# EAGLE library part RF6886 (library RitLaunchInitiative)
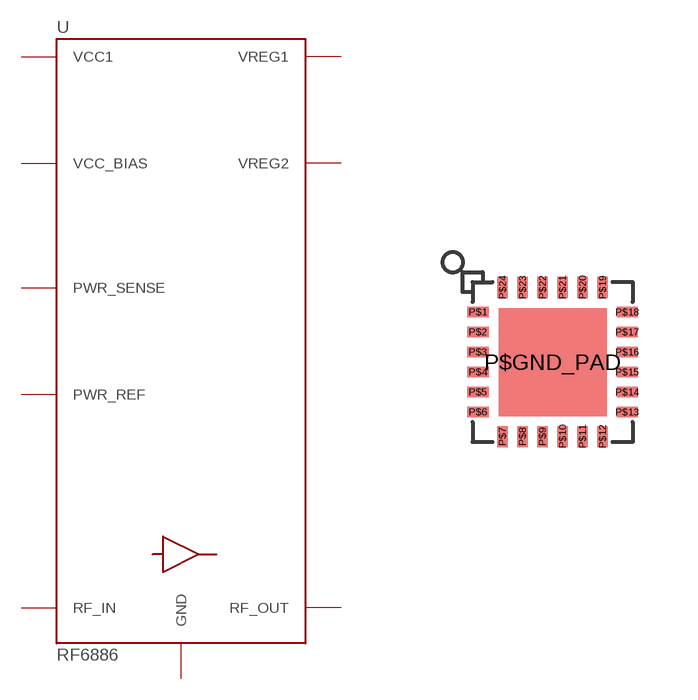
[diagram p5: symbol with the pads of 24-VFQFN; footprint 24-VFQFN]

Designator prefix -

## RF6886  [24-VFQFN]
P$1  VCC1
P$2  VCC1
P$3  VCC1
P$5  VREG2
P$6  RF_IN
P$13  RF_OUT
P$14  RF_OUT
P$15  RF_OUT
P$16  RF_OUT
P$17  RF_OUT
P$18  RF_OUT
P$19  VREG1
P$22  VCC_BIAS
P$23  PWR_SENSE
P$24  PWR_REF
P$GND_PAD  GND

## Footprint 24-VFQFN (pad centres in mm)
smd 0.528 x 0.26: P$1 -1.864,1.25; P$2 -1.864,0.75; P$3 -1.864,0.25; P$4 -1.864,-0.25; P$5 -1.864,-0.75; P$6 -1.864,-1.25; P$13 1.864,-1.25; P$14 1.864,-0.75; P$15 1.864,-0.25; P$16 1.864,0.25; P$17 1.864,0.75; P$18 1.864,1.25
smd 0.26 x 0.528: P$7 -1.25,-1.864; P$8 -0.75,-1.864; P$9 -0.25,-1.864; P$10 0.25,-1.864; P$11 0.75,-1.864; P$12 1.25,-1.864; P$19 1.25,1.864; P$20 0.75,1.864; P$21 0.25,1.864; P$22 -0.25,1.864; P$23 -0.75,1.864; P$24 -1.25,1.864
smd 2.7 x 2.7: P$GND_PAD 0,0